# EAGLE library part CONN-6-? (library connectors)
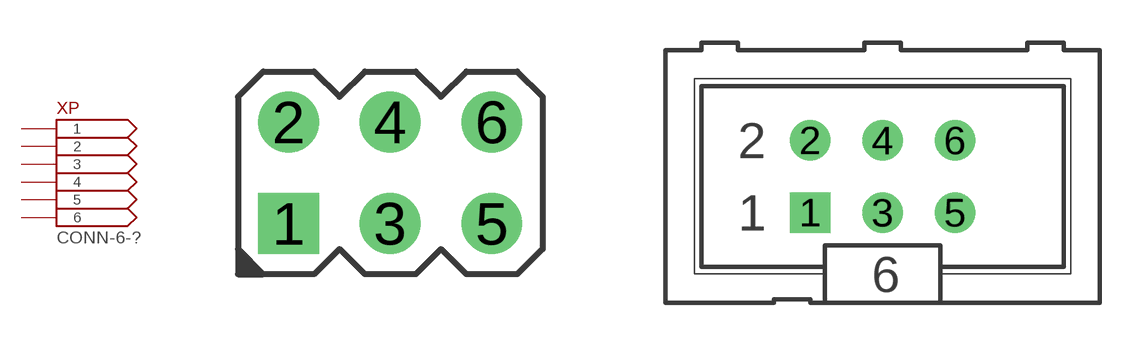
[diagram p4: symbol with the pads of MA03-2; footprints MA03-2, ML6]

Designator prefix XP

## CONN-6-NORMAL  [MA03-2]
1  1  pas
2  2  pas
3  3  pas
4  4  pas
5  5  pas
6  6  pas

## CONN-6-IDC  [ML6]
Pads as for MA03-2

## Footprint MA03-2 (pad centres in mm)
PIN HEADER
drill 1.016 square: 1 -2.54,-1.27
drill 1.016: 2 -2.54,1.27; 3 0,-1.27; 4 0,1.27; 5 2.54,-1.27; 6 2.54,1.27

## Footprint ML6 (pad centres in mm)
HARTING
drill 0.914 square: 1 -2.54,-1.27
drill 0.914: 2 -2.54,1.27; 3 0,-1.27; 4 0,1.27; 5 2.54,-1.27; 6 2.54,1.27